# Altium footprint library TE_5103308-2.PcbLib: 1 footprints
Each footprint in its own frame and in the unit in brackets; x right, y up, seen from the top. Pads: shape width x height; smd on the part's side, far side on the other; paste and mask are expansions set on the pad; w line width, h text height; cw(c..) or ccw(c..) is an arc to the next point about the centre after c.
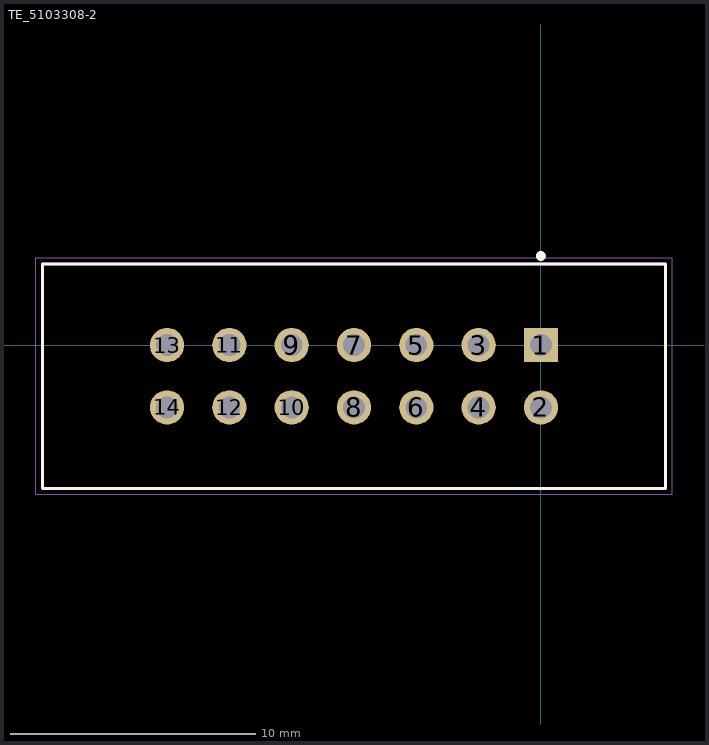
[diagram p0: the footprint, top view; thin cyan lines are the x and y axes]

## TE_5103308-2 [mil]
pads (14):
  rect 55x55 hole 35: 1(0,0)
  round 55 hole 35: 2(0,-100) 3(-100,0) 4(-100,-100) 5(-200,0) 6(-200,-100) 7(-300,0) 8(-300,-100) 9(-400,0) 10(-400,-100) 11(-500,0) 12(-500,-100) 13(-600,0) 14(-600,-100)
Top Overlay:
  circle w7.87: c-0.12,142.99 r3.94
  lines w5: -800,-230 -800,130 200,130 200,-230 -800,-230
Mechanical 13:
  lines w5: -800,-230 -800,130 200,130 200,-230 -800,-230
Mechanical 15:
  lines w1.97: -810.63,-239.76 210.63,-239.76 210.63,139.76 -810.63,139.76 -810.63,-239.76